# Altium schematic symbol library mcu_nrf.SchLib: 3 symbols
Pins are listed as number, name and electrical type; pins without a type are passive.

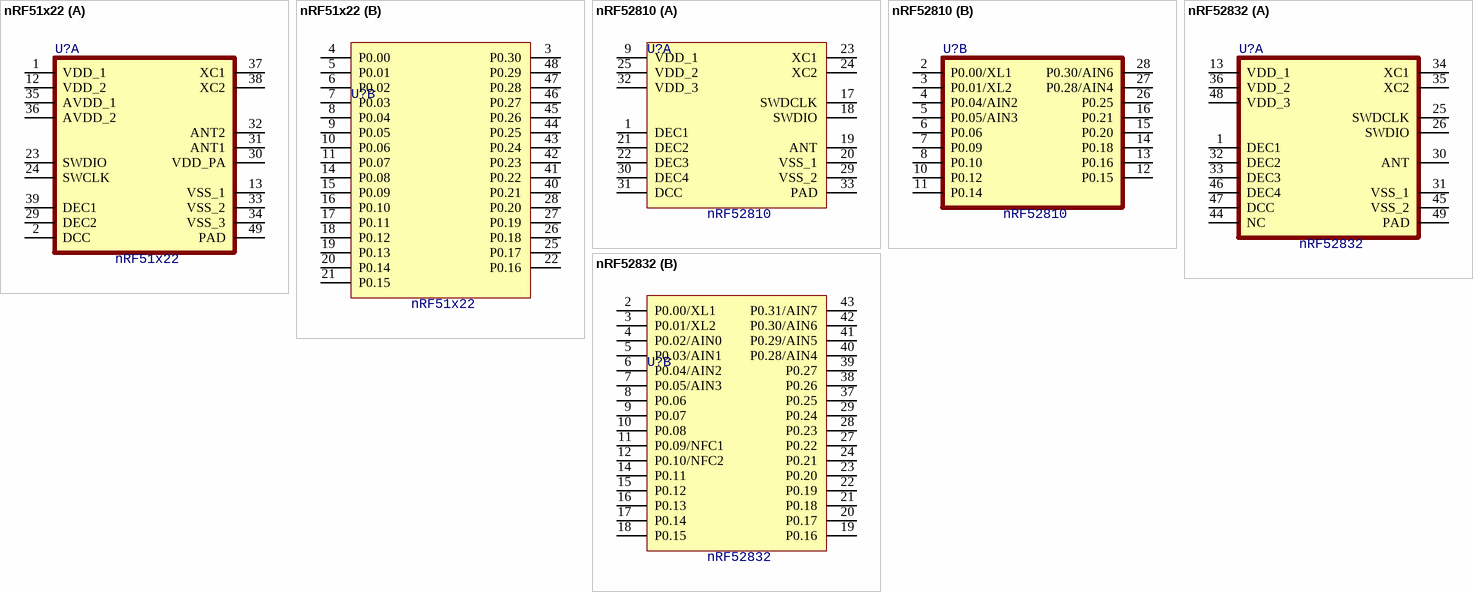
[diagram p0: symbols nRF51x22 to nRF52832]

## nRF51x22
designator U?
MCU; Value: 32MHz; Type: QFN48 P0.4
footprint _QFN_P0.4_48
part A pins: 1 VDD_1, 2 DCC, 12 VDD_2, 13 VSS_1, 23 SWDIO, 24 SWCLK, 29 DEC2, 30 VDD_PA, 31 ANT1, 32 ANT2, 33 VSS_2, 34 VSS_3, 35 AVDD_1, 36 AVDD_2, 37 XC1, 38 XC2, 39 DEC1, 49 PAD
part B pins: 3 P0.30, 4 P0.00, 5 P0.01, 6 P0.02, 7 P0.03, 8 P0.04, 9 P0.05, 10 P0.06, 11 P0.07, 14 P0.08, 15 P0.09, 16 P0.10, 17 P0.11, 18 P0.12, 19 P0.13, 20 P0.14, 21 P0.15, 22 P0.16, 25 P0.17, 26 P0.18, 27 P0.19, 28 P0.20, 40 P0.21, 41 P0.22, 42 P0.23, 43 P0.24, 44 P0.25, 45 P0.26, 46 P0.27, 47 P0.28, 48 P0.29

## nRF52810
designator U?
MCU; Value: 64MHz; Type: QFN48 P0.4
footprint _QFN_P0.5_32
part A pins: 1 DEC1, 9 VDD_1, 17 SWDCLK, 18 SWDIO, 19 ANT, 20 VSS_1, 21 DEC2, 22 DEC3, 23 XC1, 24 XC2, 25 VDD_2, 29 VSS_2, 30 DEC4, 31 DCC, 32 VDD_3, 33 PAD
part B pins: 2 P0.00/XL1, 3 P0.01/XL2, 4 P0.04/AIN2, 5 P0.05/AIN3, 6 P0.06, 7 P0.09, 8 P0.10, 10 P0.12, 11 P0.14, 12 P0.15, 13 P0.16, 14 P0.18, 15 P0.20, 16 P0.21, 26 P0.25, 27 P0.28/AIN4, 28 P0.30/AIN6

## nRF52832
designator U?
MCU; Value: 64MHz; Type: QFN48 P0.4
footprint _QFN_P0.4_48
part A pins: 1 DEC1, 13 VDD_1, 25 SWDCLK, 26 SWDIO, 30 ANT, 31 VSS_1, 32 DEC2, 33 DEC3, 34 XC1, 35 XC2, 36 VDD_2, 44 NC, 45 VSS_2, 46 DEC4, 47 DCC, 48 VDD_3, 49 PAD
part B pins: 2 P0.00/XL1, 3 P0.01/XL2, 4 P0.02/AIN0, 5 P0.03/AIN1, 6 P0.04/AIN2, 7 P0.05/AIN3, 8 P0.06, 9 P0.07, 10 P0.08, 11 P0.09/NFC1, 12 P0.10/NFC2, 14 P0.11, 15 P0.12, 16 P0.13, 17 P0.14, 18 P0.15, 19 P0.16, 20 P0.17, 21 P0.18, 22 P0.19, 23 P0.20, 24 P0.21, 27 P0.22, 28 P0.23, 29 P0.24, 37 P0.25, 38 P0.26, 39 P0.27, 40 P0.28/AIN4, 41 P0.29/AIN5, 42 P0.30/AIN6, 43 P0.31/AIN7